# EAGLE library part TERMINAL_BLOCK-8 (library connectors)
8 Pin Terminal block with .25" centers purchased from All Electronics - Part #Ter-98 Contacts Rated at 5A and 150V RDI Carol Stream - 3 Series
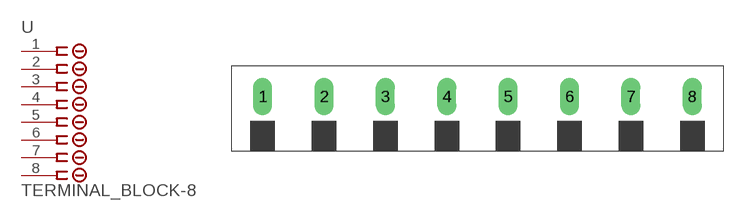
[diagram p2: symbol with the pads of TERM-8; footprint TERM-8]

Designator prefix -

## TERMINAL_BLOCK-8  [TERM-8]
1  1
2  2
3  3
4  4
5  5
6  6
7  7
8  8

## Footprint TERM-8 (pad centres in mm)
8 position Terminal Strip Pin's .235" grid
drill 1.3 long: 1 0,0; 2 6.35,0; 3 12.7,0; 4 19.05,0; 5 25.4,0; 6 31.75,0; 7 38.1,0; 8 44.45,0